# EAGLE library part ISL2110 (library robot)
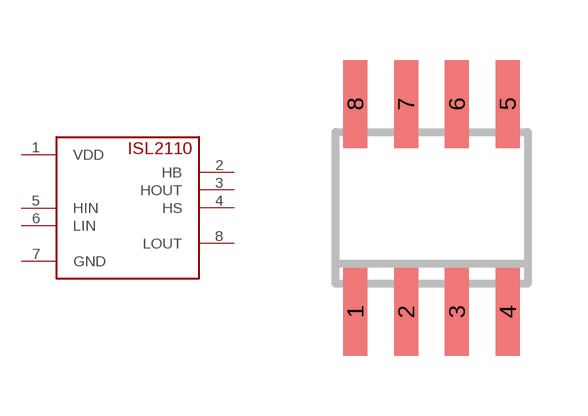
[diagram p6: symbol with the pads of SO08; footprint SO08]

Designator prefix -

## ISL2110SOIC  [SO08]
1  VDD
2  HB
3  HOUT
4  HS
5  HIN
6  LIN
7  GND
8  LOUT

## Footprint SO08 (pad centres in mm)
SMALL OUTLINE INTEGRATED CIRCUIT body 3.9 mm/JEDEC MS-012AA
smd 0.6 x 2.2: 1 -1.905,-2.6; 2 -0.635,-2.6; 3 0.635,-2.6; 4 1.905,-2.6; 5 1.905,2.6; 6 0.635,2.6; 7 -0.635,2.6; 8 -1.905,2.6